# Altium footprint library CSTNE8M00GH5C000R0.PcbLib: 1 footprints
Each footprint in its own frame and in the unit in brackets; x right, y up, seen from the top. Pads: shape width x height; smd on the part's side, far side on the other; paste and mask are expansions set on the pad; w line width, h text height; cw(c..) or ccw(c..) is an arc to the next point about the centre after c.
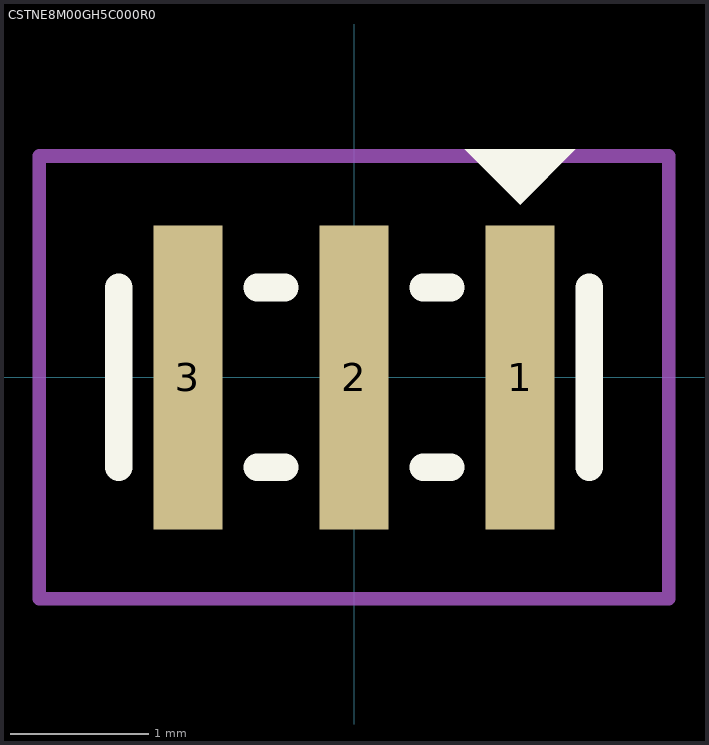
[diagram p0: the footprint, top view; thin cyan lines are the x and y axes]

## CSTNE8M00GH5C000R0 [mm]
pads (3):
  rect 0.5x2.2 smd: 1(1.2,0) 2(0,0) 3(-1.2,0)
Top Overlay:
  region: 0.8,1.65 1.6,1.65 1.2,1.25
  lines w0.2: -1.7,-0.65 -1.7,0.65 ; -0.7,-0.65 -0.5,-0.65 ; -0.7,0.65 -0.5,0.65 ; 0.5,-0.65 0.7,-0.65 ; 0.5,0.65 0.7,0.65 ; 1.7,-0.65 1.7,0.65
Top Courtyard:
  lines w0.1: -2.275,-1.05 -2.275,-1.6 ; -1.45,-1.6 -2.275,-1.6 ; 1.45,1.6 2.275,1.6 ; 2.275,1.05 2.275,1.6 ; -2.275,-1.6 -2.275,1.6 2.275,1.6 ; -2.275,-1.6 2.275,-1.6 2.275,1.6
3D body "Crys_Murata_CSTCE8M00G52A-R0_eec.STEP": height 0.25, standoff 0, extent -1.775,-1.05 1.775,1.05